# Altium integrated library SDR1307-4R7ML.IntLib: 2 symbols
Pins are listed as number, name and electrical type; pins without a type are passive.

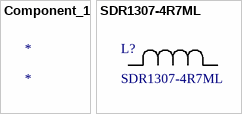
[diagram p0: symbols Component_1 to SDR1307-4R7ML]

## Component_1
designator *
footprint IND_BOURNS_SDR1307

## SDR1307-4R7ML
designator L?
No Description Available; Mfr_Name: Bourns Electronics; Copyright: Copyright (C) 2023 Ultra Librarian. All rights reserved.; Manufacturer_Part_Number: SDR1307-4R7ML
pins: 1, 2